# Altium footprint library W 外购成品模块.PcbLib: 4 footprints
Each footprint in its own frame and in the unit in brackets; x right, y up, seen from the top. Pads: shape width x height; smd on the part's side, far side on the other; paste and mask are expansions set on the pad; w line width, h text height; cw(c..) or ccw(c..) is an arc to the next point about the centre after c.
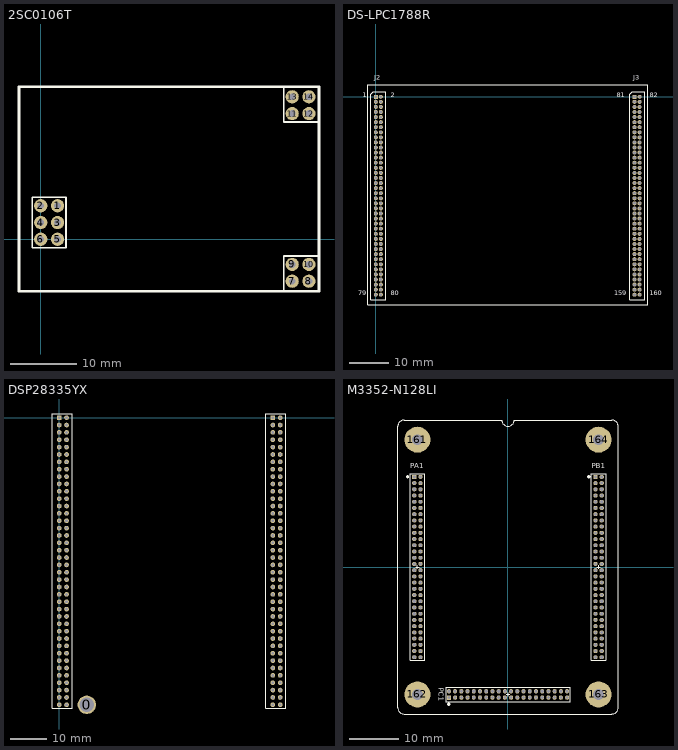
[diagram p0: the footprints below, top view; thin cyan lines are the x and y axes]

## 2SC0106T [mil]
height 334.65
pads (14):
  round 79 hole 40: 1(100,200) 2(0,200) 3(100,100) 4(0,100) 5(100,0) 6(0,0) 7(1500,-250) 8(1600,-250) 9(1500,-150) 10(1600,-150) 11(1500,750) 12(1600,750) 13(1500,850) 14(1600,850)
Top Overlay:
  lines w10: 1450,-310 1450,-100 1660,-100 ; 1450,910 1450,700 1660,700 ; -50,-50 -50,250 150,250 150,-50 -50,-50
  lines w15: -130,-310 1660,-310 1660,910 -130,910 -130,-310

## DS-LPC1788R [mm] "核心板"
pads (160):
  rect 1x1 hole 0.65: 1(0,0) 81(64.73,0)
  round 1 hole 0.65: 2(1.27,0) 3(0,-1.27) 4(1.27,-1.27) 5(0,-2.54) 6(1.27,-2.54) 7(0,-3.81) 8(1.27,-3.81) 10(1.27,-5.08) 11(0,-6.35) 12(1.27,-6.35) 13(0,-7.62) 14(1.27,-7.62) 15(0,-8.89) 16(1.27,-8.89) 17(0,-10.16) 18(1.27,-10.16) 19(0,-11.43) 20(1.27,-11.43) 21(0,-12.7) 22(1.27,-12.7) 23(0,-13.97) 24(1.27,-13.97) 25(0,-15.24) 26(1.27,-15.24) 27(0,-16.51) 28(1.27,-16.51) 29(0,-17.78) 30(1.27,-17.78) 31(0,-19.05) 32(1.27,-19.05) 33(0,-20.32) 34(1.27,-20.32) 35(0,-21.59) 36(1.27,-21.59) 37(0,-22.86) 38(1.27,-22.86) 39(0,-24.13) 40(1.27,-24.13) 41(0,-25.4) 42(1.27,-25.4) 43(0,-26.67) 44(1.27,-26.67) 45(0,-27.94) 46(1.27,-27.94) 47(0,-29.21) 48(1.27,-29.21) 49(0,-30.48) 50(1.27,-30.48) 51(0,-31.75) 52(1.27,-31.75) 53(0,-33.02) 54(1.27,-33.02) 55(0,-34.29) 56(1.27,-34.29) 57(0,-35.56) 58(1.27,-35.56) 59(0,-36.83) 60(1.27,-36.83) 61(0,-38.1) 62(1.27,-38.1) 63(0,-39.37) 64(1.27,-39.37) 65(0,-40.64) 66(1.27,-40.64) 67(0,-41.91) 68(1.27,-41.91) 69(0,-43.18) 70(1.27,-43.18) 71(0,-44.45) 72(1.27,-44.45) 73(0,-45.72) 74(1.27,-45.72) 75(0,-46.99) 76(1.27,-46.99) 77(0,-48.26) 78(1.27,-48.26) 79(0,-49.53) 80(1.27,-49.53) 82(66,0) 83(64.73,-1.27) 84(66,-1.27) 85(64.73,-2.54) 86(66,-2.54) 87(64.73,-3.81) 88(66,-3.81) 89(64.73,-5.08) 90(66,-5.08) 91(64.73,-6.35) 92(66,-6.35) 93(64.73,-7.62) 94(66,-7.62) 95(64.73,-8.89) 96(66,-8.89) 97(64.73,-10.16) 98(66,-10.16) 99(64.73,-11.43) 100(66,-11.43) 101(64.73,-12.7) 102(66,-12.7) 103(64.73,-13.97) 104(66,-13.97) 105(64.73,-15.24) 106(66,-15.24) 107(64.73,-16.51) 108(66,-16.51) 109(64.73,-17.78) 110(66,-17.78) 111(64.73,-19.05) 112(66,-19.05) 113(64.73,-20.32) 114(66,-20.32) 115(64.73,-21.59) 116(66,-21.59) 117(64.73,-22.86) 118(66,-22.86) 119(64.73,-24.13) 120(66,-24.13) 121(64.73,-25.4) 122(66,-25.4) 123(64.73,-26.67) 124(66,-26.67) 125(64.73,-27.94) 126(66,-27.94) 127(64.73,-29.21) 128(66,-29.21) 129(64.73,-30.48) 130(66,-30.48) 131(64.73,-31.75) 132(66,-31.75) 133(64.73,-33.02) 134(66,-33.02) 135(64.73,-34.29) 136(66,-34.29) 137(64.73,-35.56) 138(66,-35.56) 139(64.73,-36.83) 140(66,-36.83) 141(64.73,-38.1) 142(66,-38.1) 143(64.73,-39.37) 144(66,-39.37) 145(64.73,-40.64) 146(66,-40.64) 147(64.73,-41.91) 148(66,-41.91) 149(64.73,-43.18) 150(66,-43.18) 151(64.73,-44.45) 152(66,-44.45) 153(64.73,-45.72) 154(66,-45.72) 155(64.73,-46.99) 156(66,-46.99) 157(64.73,-48.26) 158(66,-48.26) 159(64.73,-49.53) 160(66,-49.53)
  round 1 hole 0.65 paste+0: 9(0,-5.08)
Top Overlay:
  lines w0.127: -1.27,-50.8 2.54,-50.8 2.54,1.27 -0.635,1.27 -1.27,0.635 -1.27,-50.8 ; 63.5,-50.8 67.31,-50.8 67.31,1.27 64.135,1.27 63.5,0.635 63.5,-50.8
  lines w0.305: -2,-52 68,-52 68,3 -2,3 -2,-52
  text "160" at 68.58,-50.165 h2.03
  text "159" at 59.69,-50.165 h2.03
  text "80" at 3.81,-50.165 h2.03
  text "79" at -4.445,-50.165 h2.03
  text "J2" at -0.381,3.81 h2.03
  text "J3" at 64.389,3.81 h2.03
  text "1" at -3.302,-0.635 h2.03
  text "81" at 60.325,-0.635 h2.03
  text "2" at 3.81,-0.635 h2.03
  text "82" at 68.58,-0.635 h2.03

## DSP28335YX [mil]
pads (161):
  round 196.85 hole 157.48: 0(295.28,-3070.87)
  rect 50x50 hole 30: 1(0,0) 81(2285,0)
  round 50 hole 30: 2(78.74,0) 3(0,-78.74) 4(78.74,-78.74) 5(0,-157.48) 6(78.74,-157.48) 7(0,-236.22) 8(78.74,-236.22) 9(0,-314.96) 10(78.74,-314.96) 11(0,-393.7) 12(78.74,-393.7) 13(0,-472.44) 14(78.74,-472.44) 15(0,-551.18) 16(78.74,-551.18) 17(0,-629.92) 18(78.74,-629.92) 19(0,-708.66) 20(78.74,-708.66) 21(0,-787.4) 22(78.74,-787.4) 23(0,-866.14) 24(78.74,-866.14) 25(0,-944.88) 26(78.74,-944.88) 27(0,-1023.62) 28(78.74,-1023.62) 29(0,-1102.36) 30(78.74,-1102.36) 31(0,-1181.1) 32(78.74,-1181.1) 33(0,-1259.84) 34(78.74,-1259.84) 35(0,-1338.58) 36(78.74,-1338.58) 37(0,-1417.32) 38(78.74,-1417.32) 39(0,-1496.06) 40(78.74,-1496.06) 41(0,-1574.8) 42(78.74,-1574.8) 43(0,-1653.54) 44(78.74,-1653.54) 45(0,-1732.28) 46(78.74,-1732.28) 47(0,-1811.03) 48(78.74,-1811.03) 49(0,-1889.77) 50(78.74,-1889.77) 51(0,-1968.51) 52(78.74,-1968.51) 53(0,-2047.24) 54(78.74,-2047.24) 55(0,-2125.99) 56(78.74,-2125.99) 57(0,-2204.73) 58(78.74,-2204.73) 59(0,-2283.47) 60(78.74,-2283.47) 61(0,-2362.21) 62(78.74,-2362.21) 63(0,-2440.95) 64(78.74,-2440.95) 65(0,-2519.69) 66(78.74,-2519.69) 67(0,-2598.43) 68(78.74,-2598.43) 69(0,-2677.17) 70(78.74,-2677.17) 71(0,-2755.91) 72(78.74,-2755.91) 73(0,-2834.65) 74(78.74,-2834.65) 75(0,-2913.39) 76(78.74,-2913.39) 77(0,-2992.13) 78(78.74,-2992.13) 79(0,-3070.87) 80(78.74,-3070.87) 82(2363.74,0) 83(2285,-78.74) 84(2363.74,-78.74) 85(2285,-157.48) 86(2363.74,-157.48) 87(2285,-236.22) 88(2363.74,-236.22) 89(2285,-314.96) 90(2363.74,-314.96) 91(2285,-393.7) 92(2363.74,-393.7) 93(2285,-472.44) 94(2363.74,-472.44) 95(2285,-551.18) 96(2363.74,-551.18) 97(2285,-629.92) 98(2363.74,-629.92) 99(2285,-708.66) 100(2363.74,-708.66) 101(2285,-787.4) 102(2363.74,-787.4) 103(2285,-866.14) 104(2363.74,-866.14) 105(2285,-944.88) 106(2363.74,-944.88) 107(2285,-1023.62) 108(2363.74,-1023.62) 109(2285,-1102.36) 110(2363.74,-1102.36) 111(2285,-1181.1) 112(2363.74,-1181.1) 113(2285,-1259.84) 114(2363.74,-1259.84) 115(2285,-1338.58) 116(2363.74,-1338.58) 117(2285,-1417.32) 118(2363.74,-1417.32) 119(2285,-1496.06) 120(2363.74,-1496.06) 121(2285,-1574.8) 122(2363.74,-1574.8) 123(2285,-1653.54) 124(2363.74,-1653.54) 125(2285,-1732.28) 126(2363.74,-1732.28) 127(2285,-1811.03) 128(2363.74,-1811.03) 129(2285,-1889.77) 130(2363.74,-1889.77) 131(2285,-1968.51) 132(2363.74,-1968.51) 133(2285,-2047.24) 134(2363.74,-2047.24) 135(2285,-2125.99) 136(2363.74,-2125.99) 137(2285,-2204.73) 138(2363.74,-2204.73) 139(2285,-2283.47) 140(2363.74,-2283.47) 141(2285,-2362.21) 142(2363.74,-2362.21) 143(2285,-2440.95) 144(2363.74,-2440.95) 145(2285,-2519.69) 146(2363.74,-2519.69) 147(2285,-2598.43) 148(2363.74,-2598.43) 149(2285,-2677.17) 150(2363.74,-2677.17) 151(2285,-2755.91) 152(2363.74,-2755.91) 153(2285,-2834.65) 154(2363.74,-2834.65) 155(2285,-2913.39) 156(2363.74,-2913.39) 157(2285,-2992.13) 158(2363.74,-2992.13) 159(2285,-3070.87) 160(2363.74,-3070.87)
Top Overlay:
  lines w12: 19.68,39.37 138.74,39.37 138.74,-3110.24 -75,-3110.24 -75,39.37 59.05,39.37 ; 2304.68,39.37 2423.74,39.37 2423.74,-3110.24 2210,-3110.24 2210,39.37 2344.05,39.37

## M3352-N128LI [mm]
height 2.65
pads (164):
  rect 0.914x0.8 hole 0.65: 1(-19.135,18.415) 61(17.865,18.415)
  oval 0.914x0.8 hole 0.65: 2(-17.865,18.415) 3(-19.135,17.145) 4(-17.865,17.145) 5(-19.135,15.875) 6(-17.865,15.875) 7(-19.135,14.605) 8(-17.865,14.605) 9(-19.135,13.335) 10(-17.865,13.335) 11(-19.135,12.065) 12(-17.865,12.065) 13(-19.135,10.795) 14(-17.865,10.795) 15(-19.135,9.525) 16(-17.865,9.525) 17(-19.135,8.255) 18(-17.865,8.255) 19(-19.135,6.985) 20(-17.865,6.985) 21(-19.135,5.715) 22(-17.865,5.715) 23(-19.135,4.445) 24(-17.865,4.445) 25(-19.135,3.175) 26(-17.865,3.175) 27(-19.135,1.905) 28(-17.865,1.905) 29(-19.135,0.635) 30(-17.865,0.635) 31(-19.135,-0.635) 32(-17.865,-0.635) 33(-19.135,-1.905) 34(-17.865,-1.905) 35(-19.135,-3.175) 36(-17.865,-3.175) 37(-19.135,-4.445) 38(-17.865,-4.445) 39(-19.135,-5.715) 40(-17.865,-5.715) 41(-19.135,-6.985) 42(-17.865,-6.985) 43(-19.135,-8.255) 44(-17.865,-8.255) 45(-19.135,-9.525) 46(-17.865,-9.525) 47(-19.135,-10.795) 48(-17.865,-10.795) 49(-19.135,-12.065) 50(-17.865,-12.065) 51(-19.135,-13.335) 52(-17.865,-13.335) 53(-19.135,-14.605) 54(-17.865,-14.605) 55(-19.135,-15.875) 56(-17.865,-15.875) 57(-19.135,-17.145) 58(-17.865,-17.145) 59(-19.135,-18.415) 60(-17.865,-18.415) 62(19.135,18.415) 63(17.865,17.145) 64(19.135,17.145) 65(17.865,15.875) 66(19.135,15.875) 67(17.865,14.605) 68(19.135,14.605) 69(17.865,13.335) 70(19.135,13.335) 71(17.865,12.065) 72(19.135,12.065) 73(17.865,10.795) 74(19.135,10.795) 75(17.865,9.525) 76(19.135,9.525) 77(17.865,8.255) 78(19.135,8.255) 79(17.865,6.985) 80(19.135,6.985) 81(17.865,5.715) 82(19.135,5.715) 83(17.865,4.445) 84(19.135,4.445) 85(17.865,3.175) 86(19.135,3.175) 87(17.865,1.905) 88(19.135,1.905) 89(17.865,0.635) 90(19.135,0.635) 91(17.865,-0.635) 92(19.135,-0.635) 93(17.865,-1.905) 94(19.135,-1.905) 95(17.865,-3.175) 96(19.135,-3.175) 97(17.865,-4.445) 98(19.135,-4.445) 99(17.865,-5.715) 100(19.135,-5.715) 101(17.865,-6.985) 102(19.135,-6.985) 103(17.865,-8.255) 104(19.135,-8.255) 105(17.865,-9.525) 106(19.135,-9.525) 107(17.865,-10.795) 108(19.135,-10.795) 109(17.865,-12.065) 110(19.135,-12.065) 111(17.865,-13.335) 112(19.135,-13.335) 113(17.865,-14.605) 114(19.135,-14.605) 115(17.865,-15.875) 116(19.135,-15.875) 117(17.865,-17.145) 118(19.135,-17.145) 119(17.865,-18.415) 120(19.135,-18.415)
  rect 0.8x0.914 hole 0.65: 121(-12.065,-26.635)
  oval 0.8x0.914 hole 0.65: 122(-12.065,-25.365) 123(-10.795,-26.635) 124(-10.795,-25.365) 125(-9.525,-26.635) 126(-9.525,-25.365) 127(-8.255,-26.635) 128(-8.255,-25.365) 129(-6.985,-26.635) 130(-6.985,-25.365) 131(-5.715,-26.635) 132(-5.715,-25.365) 133(-4.445,-26.635) 134(-4.445,-25.365) 135(-3.175,-26.635) 136(-3.175,-25.365) 137(-1.905,-26.635) 138(-1.905,-25.365) 139(-0.635,-26.635) 140(-0.635,-25.365) 141(0.635,-26.635) 142(0.635,-25.365) 143(1.905,-26.635) 144(1.905,-25.365) 145(3.175,-26.635) 146(3.175,-25.365) 147(4.445,-26.635) 148(4.445,-25.365) 149(5.715,-26.635) 150(5.715,-25.365) 151(6.985,-26.635) 152(6.985,-25.365) 153(8.255,-26.635) 154(8.255,-25.365) 155(9.525,-26.635) 156(9.525,-25.365) 157(10.795,-26.635) 158(10.795,-25.365) 159(12.065,-26.635) 160(12.065,-25.365)
  round 5.3 hole 2.2: 161(-18.5,26) 162(-18.5,-26) 163(18.5,-26) 164(18.5,26)
Top Overlay:
  circle w0.381: c16.493,18.44 r0.127
  circle w0.381: c-20.507,18.44 r0.127
  circle w0.381: c-12.09,-28.007 r0.127
  lines w0.127: -8.509,-30 -4.868,-30 21.23,-30 ccw(c21.23,-28.73) 22.5,-28.73 22.5,28.73 ccw(c21.23,28.73) 21.23,30 1.25,30 cw(c0,30) -1.25,30 -21.23,30 ccw(c-21.23,28.73) -22.5,28.73 -22.5,28.469 -22.5,-28.73 ccw(c-21.23,-28.73) -21.23,-30 -8.272,-30
  lines w0.152: -18.881,0 -18.119,0 ; -18.5,-0.381 -18.5,0 -18.5,0.381 ; -0.381,-26 0.381,-26 ; 0,-26.381 0,-26 0,-25.619 ; 18.119,0 18.881,0 ; 18.5,-0.381 18.5,0 18.5,0.381
  lines w0.203: -20,-19.05 -17,-19.05 -17,19.05 -20,19.05 -20,-19.05 ; -12.7,-27.5 12.7,-27.5 12.7,-24.5 -12.7,-24.5 -12.7,-27.5 ; 17,-19.05 17,19.05 20,19.05 20,-19.05 17,-19.05
  text "PB1" at 17.145,19.749 h1.78
  text "PA1" at -19.939,19.749 h1.78
  text "PC1" at -14.52,-24.638 h1.78